# Altium schematic symbol library R1240N001B-TR-FE.SchLib: 1 symbol
Pins are listed as number, name and electrical type; pins without a type are passive.

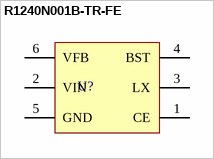
[diagram p0: symbol R1240N001B-TR-FE]

## R1240N001B-TR-FE
designator U?
=Description; Manufacturer: Nisshinbo Micro Devices Inc.; Manufacturer Part Number: R1240N001B-TR-FE; Supplier 1: Mouser; Supplier Part Number 1: 848-R1240N001BTRFE; RoHS: No; Stock 1: 5885
footprint R1240N001B-TR-FE (SOT23, 6-Leads, Body 2.90x2.80mm, Pitch 0.95mm, IPC Medium Density)
pins: 1 CE, 2 VIN (power), 3 LX, 4 BST, 5 GND (power), 6 VFB